# Altium schematic symbol library ubloxLib.SchLib: 19 symbols
Pins are listed as number, name and electrical type; pins without a type are passive.

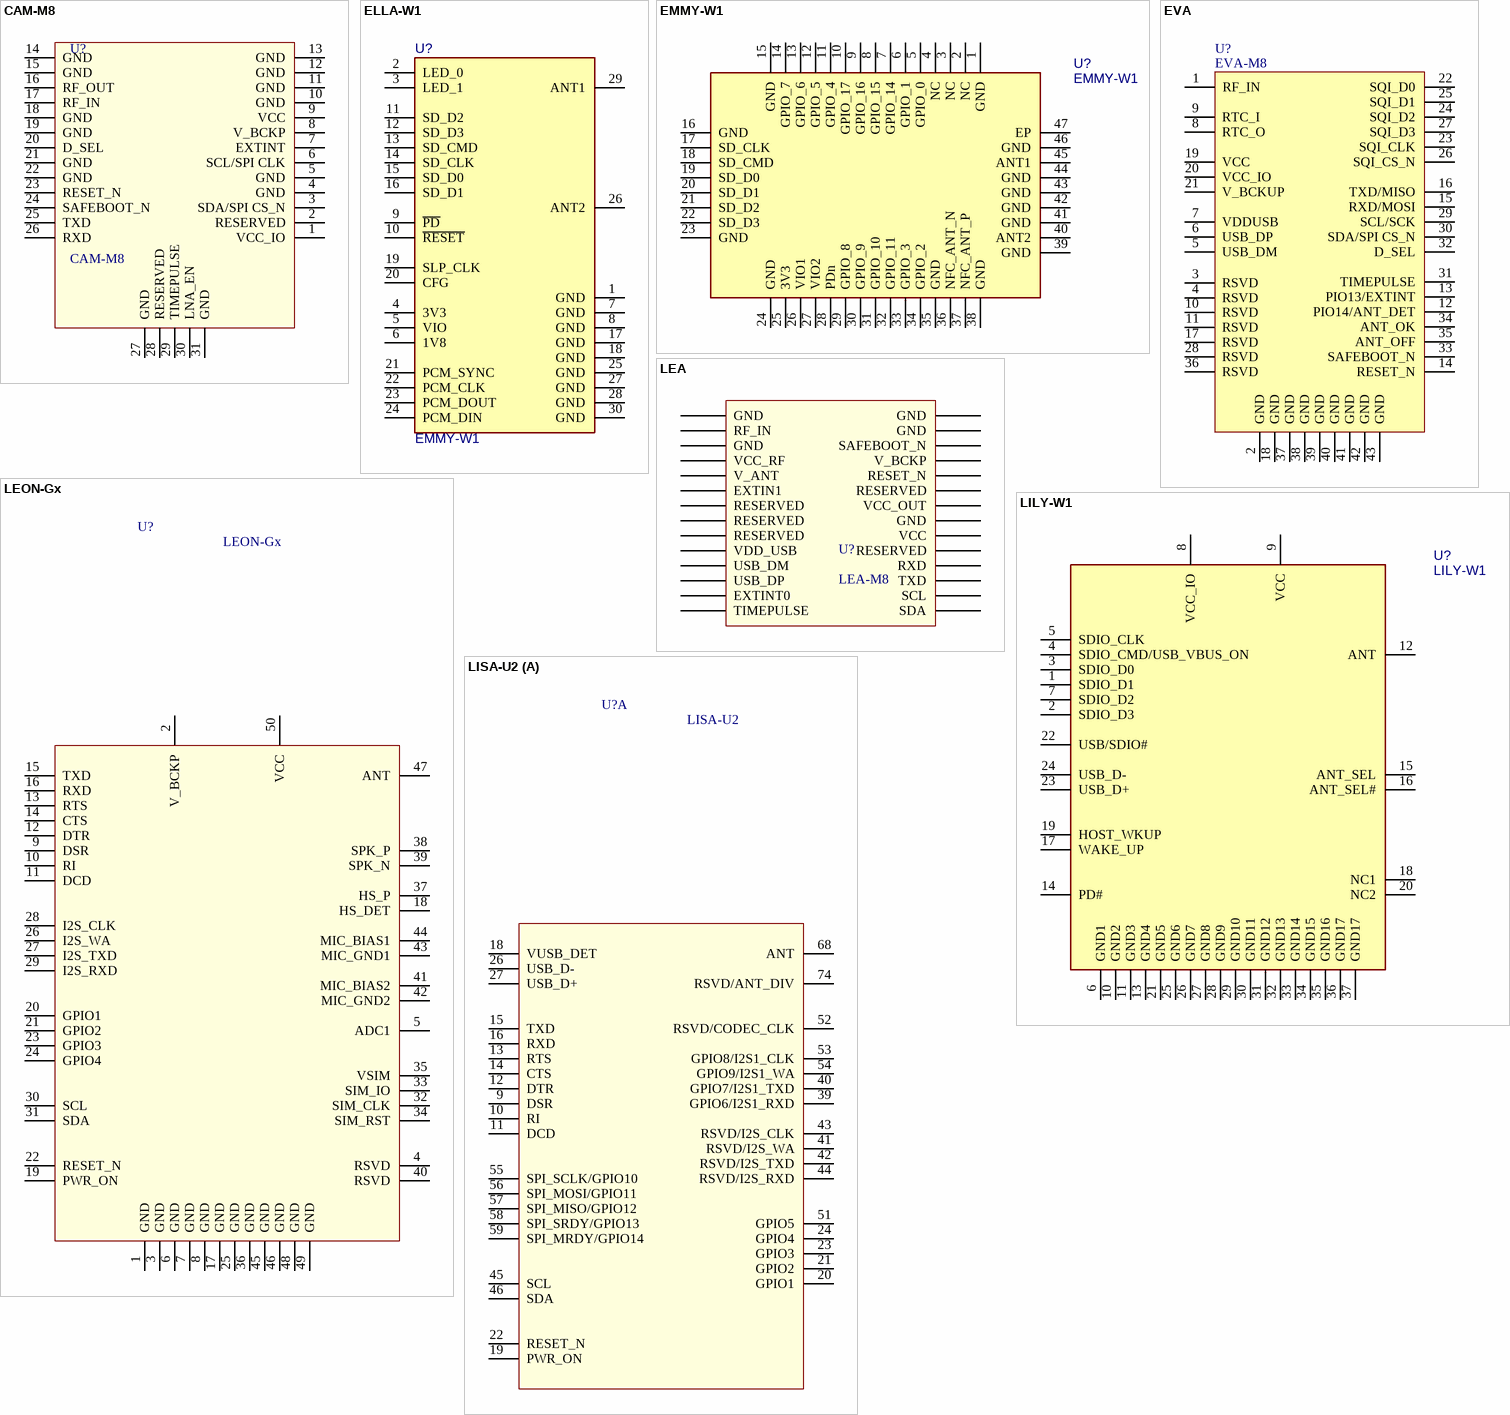
[diagram p0: symbols CAM-M8 to LISA-U2]

## CAM-M8
designator U?
u-blox CAM GNSS antenna module; Manufacturer: u-blox; Part Description: u-blox CAM GNSS antenna module; Value: CAM-M8
footprint CAM (u-blox CAM GNSS antenna module)
pins: 1 VCC_IO, 2 RESERVED, 3 SDA/SPI CS_N, 4 GND, 5 GND, 6 SCL/SPI CLK, 7 EXTINT, 8 V_BCKP, 9 VCC, 10 GND, 11 GND, 12 GND, 13 GND, 14 GND, 15 GND, 16 RF_OUT, 17 RF_IN, 18 GND, 19 GND, 20 D_SEL, 21 GND, 22 GND, 23 RESET_N, 24 SAFEBOOT_N, 25 TXD, 26 RXD, 27 GND, 28 RESERVED, 29 TIMEPULSE, 30 LNA_EN, 31 GND

## ELLA-W1
designator U?, comment EMMY-W1
IEEE 802.11a/b/g/n Wi-Fi, Bluetooth 3.0+HS Module; Manufacturer: u-blox; Part Description: IEEE 802.11a/b/g/n Wi-Fi, Bluetooth 3.0+HS Module; Value: EMMY-W1
footprint ELLA-W1 (IEEE 802.11a/b/g/n Wi-Fi, Bluetooth 3.0+HS Module)
pins: 1 GND (power), 2 LED_0, 3 LED_1, 4 3V3 (power), 5 VIO (power), 6 1V8 (power), 7 GND (power), 8 GND (power), 9 ~{PD}, 10 ~{RESET}, 11 SD_D2, 12 SD_D3, 13 SD_CMD, 14 SD_CLK, 15 SD_D0, 16 SD_D1, 17 GND (power), 18 GND (power), 19 SLP_CLK, 20 CFG, 21 PCM_SYNC, 22 PCM_CLK, 23 PCM_DOUT, 24 PCM_DIN, 25 GND (power), 26 ANT2, 27 GND (power), 28 GND (power), 29 ANT1, 30 GND (power)

## EMMY-W1
designator U?
Host-based multiradio module with Wi-Fi, Bluetooth and NFC; Manufacturer: u-blox; Part Description: Host-based multiradio module with Wi-Fi, Bluetooth and NFC; Value: EMMY-W1
footprint EMMY-W1 (Host-based multiradio module with Wi-Fi, Bluetooth and NFC)
pins: 1 GND, 2 NC, 3 NC, 4 NC, 5 GPIO_0, 6 GPIO_1, 7 GPIO_14, 8 GPIO_15, 9 GPIO_16, 10 GPIO_17, 11 GPIO_4, 12 GPIO_5, 13 GPIO_6, 14 GPIO_7, 15 GND, 16 GND, 17 SD_CLK, 18 SD_CMD, 19 SD_D0, 20 SD_D1, 21 SD_D2, 22 SD_D3, 23 GND, 24 GND, 25 3V3, 26 VIO1, 27 VIO2, 28 PDn, 29 GPIO_8, 30 GPIO_9, 31 GPIO_10, 32 GPIO_11, 33 GPIO_3, 34 GPIO_2, 35 GND, 36 NFC_ANT_N, 37 NFC_ANT_P, 38 GND, 39 GND, 40 ANT2, 41 GND, 42 GND, 43 GND, 44 GND, 45 ANT1, 46 GND, 47 EP

## EVA
designator U?, comment EVA-M8
u-blox EVA GNSS module; Part Description: u-blox EVA-M8 GNSS moduel; Manufacturer: u-blox; Value: EVA-M8
footprint EVA (u-blox EVA GNSS module)
pins: 1 RF_IN, 2 GND (power), 3 RSVD, 4 RSVD, 5 USB_DM, 6 USB_DP, 7 VDDUSB (power), 8 RTC_O, 9 RTC_I, 10 RSVD, 11 RSVD, 12 PIO14/ANT_DET, 13 PIO13/EXTINT, 14 RESET_N, 15 RXD/MOSI, 16 TXD/MISO, 17 RSVD, 18 GND (power), 19 VCC (power), 20 VCC_IO (power), 21 V_BCKUP (power), 22 SQI_D0, 23 SQI_CLK, 24 SQI_D2, 25 SQI_D1, 26 SQI_CS_N, 27 SQI_D3, 28 RSVD, 29 SCL/SCK, 30 SDA/SPI CS_N, 31 TIMEPULSE, 32 D_SEL, 33 SAFEBOOT_N, 34 ANT_OK, 35 ANT_OFF, 36 RSVD, 37 GND (power), 38 GND (power), 39 GND (power), 40 GND (power), 41 GND (power), 42 GND (power), 43 GND (power)

## LEA
designator U?, comment LEA-M8
u-blox LEA GNSS module; Part Description: u-blox LEA-M8 GNSS module; Manufacturer: u-blox; Value: LEA-M8
footprint LEA (u-blox LEA GNSS module)
pins: 1 SDA, 2 SCL, 3 TXD, 4 RXD, 5 RESERVED, 6 VCC, 7 GND, 8 VCC_OUT, 9 RESERVED, 10 RESET_N, 11 V_BCKP, 12 SAFEBOOT_N, 13 GND, 14 GND, 15 GND, 16 RF_IN, 17 GND, 18 VCC_RF, 19 V_ANT, 20 EXTIN1, 21 RESERVED, 22 RESERVED, 23 RESERVED, 24 VDD_USB, 25 USB_DM, 26 USB_DP, 27 EXTINT0, 28 TIMEPULSE

## LEON-Gx
designator U?
quad-band GSM/GPRS data & voice module; Manufacturer: u-blox; Part Description: quad-band GSM/GPRS data & voice module; Value: LEON-Gx
footprint LEON-Gx (quad-band GSM/GPRS data & voice module)
pins: 1 GND, 2 V_BCKP, 3 GND, 4 RSVD, 5 ADC1, 6 GND, 7 GND, 8 GND, 9 DSR, 10 RI, 11 DCD, 12 DTR, 13 RTS, 14 CTS, 15 TXD, 16 RXD, 17 GND, 18 HS_DET, 19 PWR_ON, 20 GPIO1, 21 GPIO2, 22 RESET_N, 23 GPIO3, 24 GPIO4, 25 GND, 26 I2S_WA, 27 I2S_TXD, 28 I2S_CLK, 29 I2S_RXD, 30 SCL, 31 SDA, 32 SIM_CLK, 33 SIM_IO, 34 SIM_RST, 35 VSIM, 36 GND, 37 HS_P, 38 SPK_P, 39 SPK_N, 40 RSVD, 41 MIC_BIAS2, 42 MIC_GND2, 43 MIC_GND1, 44 MIC_BIAS1, 45 GND, 46 GND, 47 ANT, 48 GND, 49 GND, 50 VCC

## LILY-W1
designator U?
Host-based Wi-Fi module; Manufacturer: u-blox; Part Description: Host-based Wi-Fi module; Value: LILY-W1
footprint LILY-W1 (Host-based Wi-Fi module)
pins: 1 SDIO_D1, 2 SDIO_D3, 3 SDIO_D0, 4 SDIO_CMD/USB_VBUS_ON, 5 SDIO_CLK, 6 GND1, 7 SDIO_D2, 8 VCC_IO, 9 VCC, 10 GND2, 11 GND3, 12 ANT, 13 GND4, 14 PD#, 15 ANT_SEL, 16 ANT_SEL#, 17 WAKE_UP, 18 NC1, 19 HOST_WKUP, 20 NC2, 21 GND5, 22 USB/SDIO#, 23 USB_D+, 24 USB_D-, 25 GND6, 26 GND7, 27 GND8, 28 GND9, 29 GND10, 30 GND11, 31 GND12, 32 GND13, 33 GND14, 34 GND15, 35 GND16, 36 GND17, 37 GND17

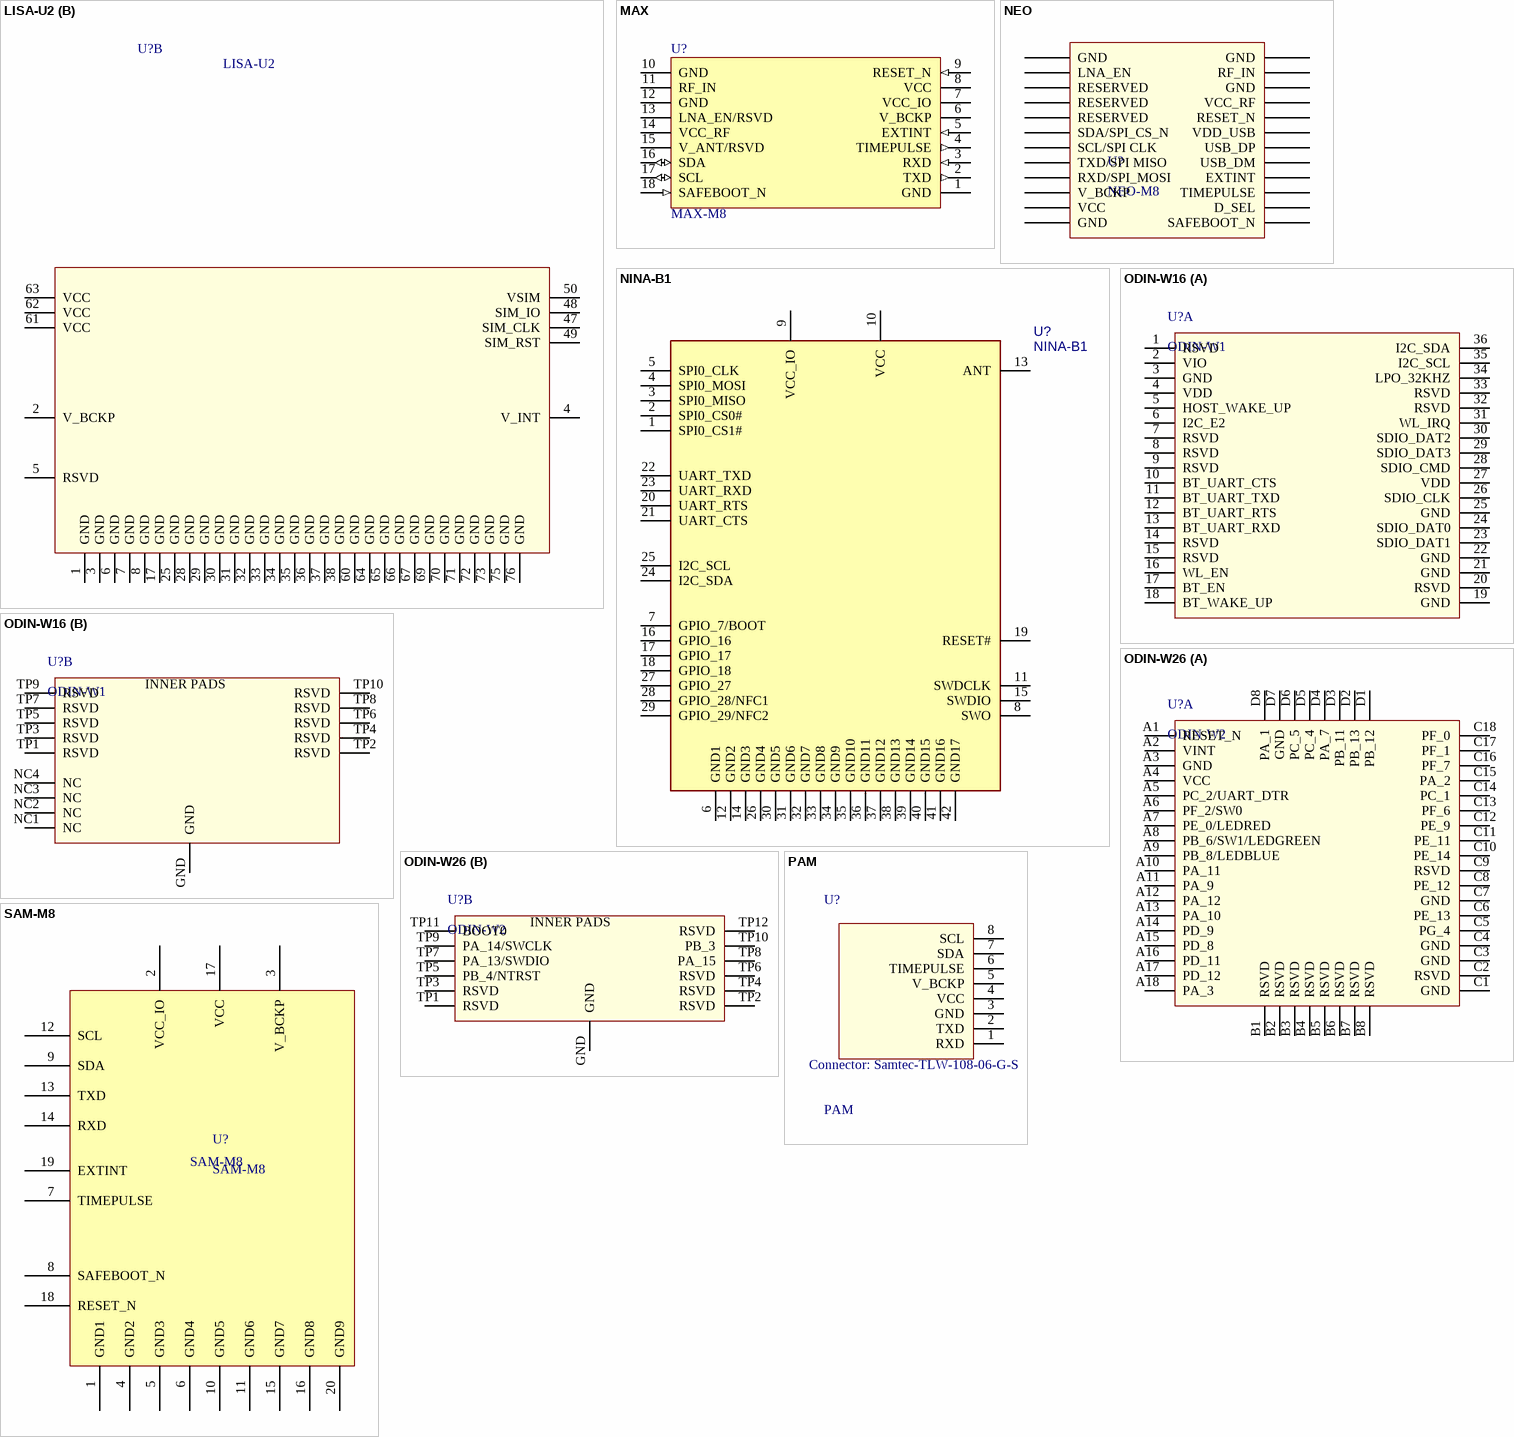
[diagram p1: symbols LISA-U2 to SAM-M8]

## LISA-U2
designator U?
3.75G HSPA+ Cellular Module; Manufacturer: u-blox; Part Description: 3.75G HSPA+ Cellular Module; Value: LISA-U2
footprint LISA-u2 (3.75G HSPA+ Cellular Module)
part A pins: 9 DSR, 10 RI, 11 DCD, 12 DTR, 13 RTS, 14 CTS, 15 TXD, 16 RXD, 18 VUSB_DET, 19 PWR_ON, 20 GPIO1, 21 GPIO2, 22 RESET_N, 23 GPIO3, 24 GPIO4, 26 USB_D-, 27 USB_D+, 39 GPIO6/I2S1_RXD, 40 GPIO7/I2S1_TXD, 41 RSVD/I2S_WA, 42 RSVD/I2S_TXD, 43 RSVD/I2S_CLK, 44 RSVD/I2S_RXD, 45 SCL, 46 SDA, 51 GPIO5, 52 RSVD/CODEC_CLK, 53 GPIO8/I2S1_CLK, 54 GPIO9/I2S1_WA, 55 SPI_SCLK/GPIO10, 56 SPI_MOSI/GPIO11, 57 SPI_MISO/GPIO12, 58 SPI_SRDY/GPIO13, 59 SPI_MRDY/GPIO14, 68 ANT, 74 RSVD/ANT_DIV
part B pins: 1 GND, 2 V_BCKP, 3 GND, 4 V_INT, 5 RSVD, 6 GND, 7 GND, 8 GND, 17 GND, 25 GND, 28 GND, 29 GND, 30 GND, 31 GND, 32 GND, 33 GND, 34 GND, 35 GND, 36 GND, 37 GND, 38 GND, 47 SIM_CLK, 48 SIM_IO, 49 SIM_RST, 50 VSIM, 60 GND, 61 VCC, 62 VCC, 63 VCC, 64 GND, 65 GND, 66 GND, 67 GND, 69 GND, 70 GND, 71 GND, 72 GND, 73 GND, 75 GND, 76 GND

## MAX
designator U?, comment MAX-M8
u-blox MAX GNSS module; Part Description: u-blox GNSS module; Manufacturer: u-blox; Value: MAX-M8
footprint MAX-M8 (u-blox M8 concurrent GNSS modules)
pins: 1 GND, 2 TXD (out), 3 RXD (in), 4 TIMEPULSE (out), 5 EXTINT (in), 6 V_BCKP, 7 VCC_IO, 8 VCC, 9 RESET_N (in), 10 GND, 11 RF_IN, 12 GND, 13 LNA_EN/RSVD, 14 VCC_RF, 15 V_ANT/RSVD, 16 SDA (io), 17 SCL (io), 18 SAFEBOOT_N (in)

## NEO
designator U?, comment NEO-M8
u-blox NEO GNSS module; Part Description: u-blox GNSS module; Manufacturer: u-blox; Value: NEO-M8
footprint NEO (u-blox NEO GNSS module)
pins: 1 SAFEBOOT_N, 2 D_SEL, 3 TIMEPULSE, 4 EXTINT, 5 USB_DM, 6 USB_DP, 7 VDD_USB, 8 RESET_N, 9 VCC_RF, 10 GND, 11 RF_IN, 12 GND, 13 GND, 14 LNA_EN, 15 RESERVED, 16 RESERVED, 17 RESERVED, 18 SDA/SPI_CS_N, 19 SCL/SPI CLK, 20 TXD/SPI MISO, 21 RXD/SPI_MOSI, 22 V_BCKP, 23 VCC, 24 GND

## NINA-B1
designator U?
Stand-alone Bluetooth low energy module; Manufacturer: u-blox; Part Description: Stand-alone Bluetooth low energy module; Value: NINA-B1
footprint NINA-B1 (Stand-alone Bluetooth low energy module)
pins: 1 SPI0_CS1#, 2 SPI0_CS0#, 3 SPI0_MISO, 4 SPI0_MOSI, 5 SPI0_CLK, 6 GND1, 7 GPIO_7/BOOT, 8 SWO, 9 VCC_IO, 10 VCC, 11 SWDCLK, 12 GND2, 13 ANT, 14 GND3, 15 SWDIO, 16 GPIO_16, 17 GPIO_17, 18 GPIO_18, 19 RESET#, 20 UART_RTS, 21 UART_CTS, 22 UART_TXD, 23 UART_RXD, 24 I2C_SDA, 25 I2C_SCL, 26 GND4, 27 GPIO_27, 28 GPIO_28/NFC1, 29 GPIO_29/NFC2, 30 GND5, 31 GND6, 32 GND7, 33 GND8, 34 GND9, 35 GND10, 36 GND11, 37 GND12, 38 GND13, 39 GND14, 40 GND15, 41 GND16, 42 GND17

## ODIN-W16
designator U?, comment ODIN-W1
Host-based multiradio module with Wi-Fi and Bluetooth; Manufacturer: u-blox; Part Description: Host-based multiradio module with Wi-Fi and Bluetooth; Value: ODIN-W1
footprint ODIN-W16 (ODIN-W16 WiFi/BT module)
part A pins: 1 RSVD, 2 VIO, 3 GND, 4 VDD, 5 HOST_WAKE_UP, 6 I2C_E2, 7 RSVD, 8 RSVD, 9 RSVD, 10 BT_UART_CTS, 11 BT_UART_TXD, 12 BT_UART_RTS, 13 BT_UART_RXD, 14 RSVD, 15 RSVD, 16 WL_EN, 17 BT_EN, 18 BT_WAKE_UP, 19 GND, 20 RSVD, 21 GND, 22 GND, 23 SDIO_DAT1, 24 SDIO_DAT0, 25 GND, 26 SDIO_CLK, 27 VDD, 28 SDIO_CMD, 29 SDIO_DAT3, 30 SDIO_DAT2, 31 WL_IRQ, 32 RSVD, 33 RSVD, 34 LPO_32KHZ, 35 I2C_SCL, 36 I2C_SDA
part B pins: GND, NC1 NC, NC2 NC, NC3 NC, NC4 NC, TP1 RSVD, TP2 RSVD, TP3 RSVD, TP4 RSVD, TP5 RSVD, TP6 RSVD, TP7 RSVD, TP8 RSVD, TP9 RSVD, TP10 RSVD
part B text: INNER PADS

## ODIN-W26
designator U?, comment ODIN-W2
Stand-alone multiradio module with Wi-Fi & Bluetooth; Manufacturer: u-blox; Part Description: Stand-alone multiradio module with Wi-Fi & Bluetooth; Value: ODIN-W2
footprint ODIN-W26 (ODIN-W262 WiFi/BT  module)
part A pins: A1 RESET_N, A2 VINT, A3 GND, A4 VCC, A5 PC_2/UART_DTR, A6 PF_2/SW0, A7 PE_0/LEDRED, A8 PB_6/SW1/LEDGREEN, A9 PB_8/LEDBLUE, A10 PA_11, A11 PA_9, A12 PA_12, A13 PA_10, A14 PD_9, A15 PD_8, A16 PD_11, A17 PD_12, A18 PA_3, B1 RSVD, B2 RSVD, B3 RSVD, B4 RSVD, B5 RSVD, B6 RSVD, B7 RSVD, B8 RSVD, C1 GND, C2 RSVD, C3 GND, C4 GND, C5 PG_4, C6 PE_13, C7 GND, C8 PE_12, C9 RSVD, C10 PE_14, C11 PE_11, C12 PE_9, C13 PF_6, C14 PC_1, C15 PA_2, C16 PF_7, C17 PF_1, C18 PF_0, D1 PB_12, D2 PB_13, D3 PB_11, D4 PA_7, D5 PC_4, D6 PC_5, D7 GND, D8 PA_1
part B pins: GND, TP1 RSVD, TP2 RSVD, TP3 RSVD, TP4 RSVD, TP5 PB_4/NTRST, TP6 RSVD, TP7 PA_13/SWDIO, TP8 PA_15, TP9 PA_14/SWCLK, TP10 PB_3, TP11 BOOT0, TP12 RSVD
part B text: INNER PADS

## PAM
designator U?  Connector: Samtec-TLW-108-06-G-S
u-blox PAM GNSS antenna module; Manufacturer: u-blox; Part Description: u-blox PAM GNSS antenna module; Value: PAM
footprint PAM (u-blox PAM antenna module)
pins: 1 RXD, 2 TXD, 3 GND, 4 VCC, 5 V_BCKP, 6 TIMEPULSE, 7 SDA, 8 SCL

## SAM-M8
designator U?
ublox SAM GNSS antenna module; Manufacturer: u-blox; Part Description: u-blox SAM GNSS antenna module; Value: SAM-M8
footprint SAM-M8 (ublox SAM antenna module)
pins: 1 GND1, 2 VCC_IO, 3 V_BCKP, 4 GND2, 5 GND3, 6 GND4, 7 TIMEPULSE, 8 SAFEBOOT_N, 9 SDA, 10 GND5, 11 GND6, 12 SCL, 13 TXD, 14 RXD, 15 GND7, 16 GND8, 17 VCC, 18 RESET_N, 19 EXTINT, 20 GND9

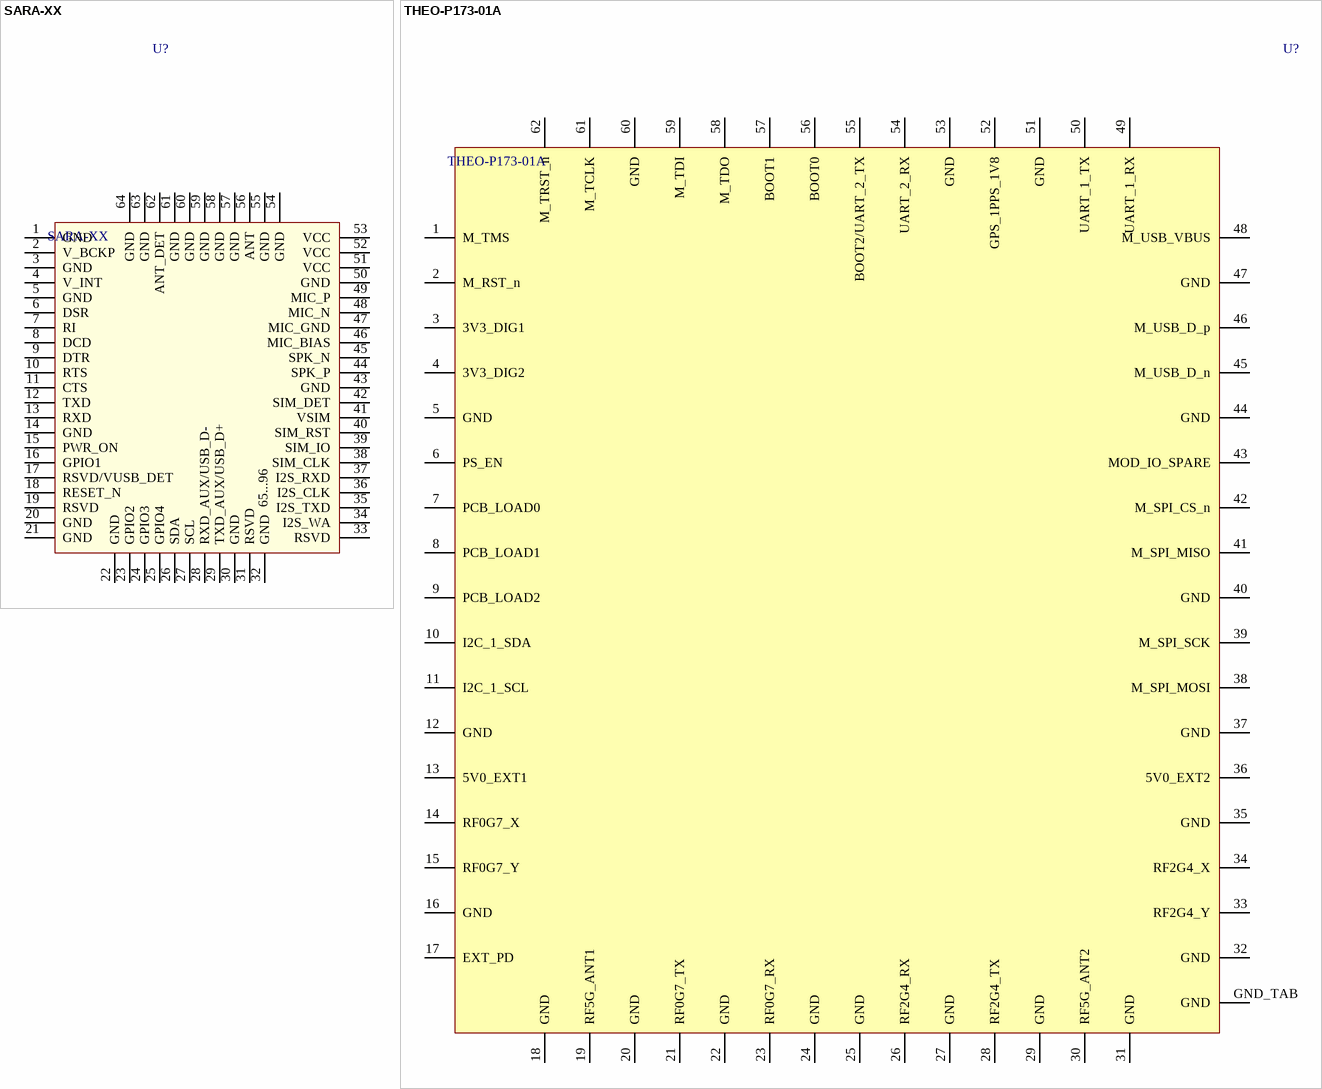
[diagram p2: symbols SARA-XX to THEO-P173-01A]

## SARA-XX
designator U?
GSM/GPRS and GSM/EGPRS/HSPA Cellular Module; Manufacturer: u-blox; Part Description: GSM/EGPRS/HSPA module; Value: SARA-XX
footprint SARA-XX (GSM/GPRS and GSM/EGPRS/HSPA   Cellular Module)
pins: 1 GND, 2 V_BCKP, 3 GND, 4 V_INT, 5 GND, 6 DSR, 7 RI, 8 DCD, 9 DTR, 10 RTS, 11 CTS, 12 TXD, 13 RXD, 14 GND, 15 PWR_ON, 16 GPIO1, 17 RSVD/VUSB_DET, 18 RESET_N, 19 RSVD, 20 GND, 21 GND, 22 GND, 23 GPIO2, 24 GPIO3, 25 GPIO4, 26 SDA, 27 SCL, 28 RXD_AUX/USB_D-, 29 TXD_AUX/USB_D+, 30 GND, 31 RSVD, 32 GND, 33 RSVD, 34 I2S_WA, 35 I2S_TXD, 36 I2S_CLK, 37 I2S_RXD, 38 SIM_CLK, 39 SIM_IO, 40 SIM_RST, 41 VSIM, 42 SIM_DET, 43 GND, 44 SPK_P, 45 SPK_N, 46 MIC_BIAS, 47 MIC_GND, 48 MIC_N, 49 MIC_P, 50 GND, 51 VCC, 52 VCC, 53 VCC, 54 GND, 55 GND, 56 ANT, 57 GND, 58 GND, 59 GND, 60 GND, 61 GND, 62 ANT_DET, 63 GND, 64 GND, 65 GND, 66 GND, 67 GND, 68 GND, 69 GND, 70 GND, 71 GND, 72 GND, 73 GND, 74 GND, 75 GND, 76 GND, 77 GND, 78 GND, 79 GND, 80 GND, 81 GND, 82 GND, 83 GND, 84 GND, 85 GND, 86 GND, 87 GND, 88 GND, 89 GND, 90 GND, 91 GND, 92 GND, 93 GND, 94 GND, 95 GND, 96 GND
text: 65...96

## THEO-P173-01A
designator U?
Host-based V2X transceiver module; Manufacturer: u-blox; Part Description: Host-based V2X transceiver module; Value: THEO-P173-01A
footprint THEO-P173-01A (Host-based V2X transceiver module)
pins: 1 M_TMS, 2 M_RST_n, 3 3V3_DIG1 (power), 4 3V3_DIG2 (power), 5 GND (power), 6 PS_EN, 7 PCB_LOAD0, 8 PCB_LOAD1, 9 PCB_LOAD2, 10 I2C_1_SDA, 11 I2C_1_SCL, 12 GND (power), 13 5V0_EXT1 (power), 14 RF0G7_X, 15 RF0G7_Y, 16 GND (power), 17 EXT_PD (power), 18 GND (power), 19 RF5G_ANT1, 20 GND (power), 21 RF0G7_TX, 22 GND (power), 23 RF0G7_RX, 24 GND (power), 25 GND (power), 26 RF2G4_RX, 27 GND (power), 28 RF2G4_TX, 29 GND (power), 30 RF5G_ANT2, 31 GND (power), 32 GND (power), 33 RF2G4_Y, 34 RF2G4_X, 35 GND (power), 36 5V0_EXT2 (power), 37 GND (power), 38 M_SPI_MOSI, 39 M_SPI_SCK, 40 GND (power), 41 M_SPI_MISO, 42 M_SPI_CS_n, 43 MOD_IO_SPARE, 44 GND (power), 45 M_USB_D_n, 46 M_USB_D_p, 47 GND (power), 48 M_USB_VBUS, 49 UART_1_RX, 50 UART_1_TX, 51 GND (power), 52 GPS_1PPS_1V8, 53 GND (power), 54 UART_2_RX, 55 BOOT2/UART_2_TX, 56 BOOT0, 57 BOOT1, 58 M_TDO, 59 M_TDI, 60 GND (power), 61 M_TCLK, 62 M_TRST_n, GND_TAB (power), GND_TAB GND (power)

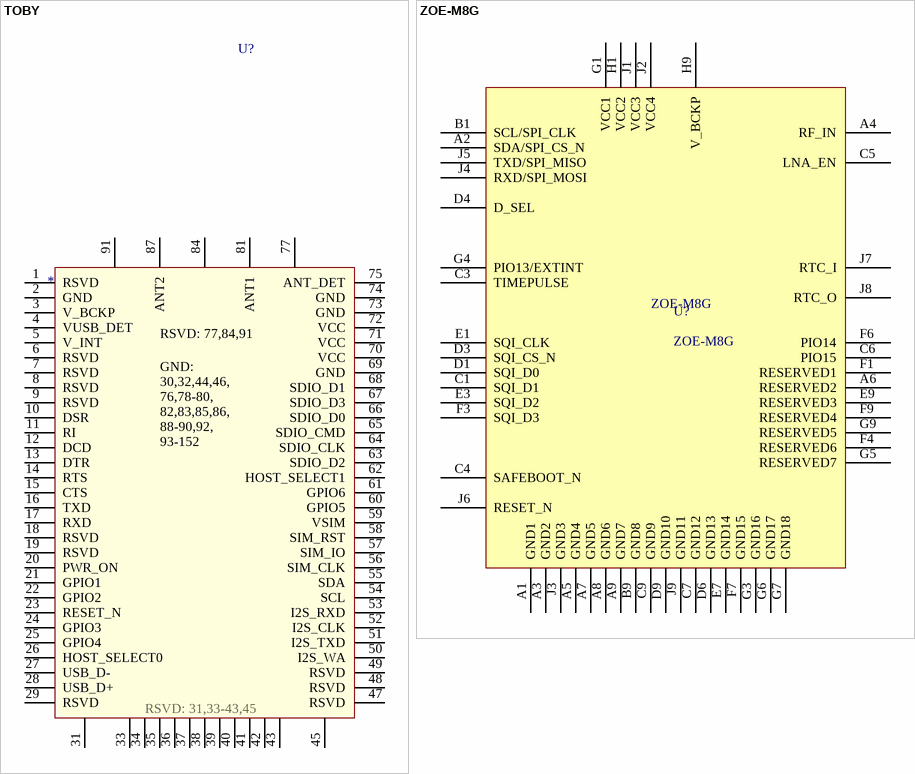
[diagram p3: symbols TOBY to ZOE-M8G]

## TOBY
designator U?
TOBY cellular modems; Manufacturer: u-blox; Part Manufacturer: *; Value: *
footprint TOBY (TOBY cellular module)
pins: 1 RSVD, 2 GND, 3 V_BCKP, 4 VUSB_DET, 5 V_INT, 6 RSVD, 7 RSVD, 8 RSVD, 9 RSVD, 10 DSR, 11 RI, 12 DCD, 13 DTR, 14 RTS, 15 CTS, 16 TXD, 17 RXD, 18 RSVD, 19 RSVD, 20 PWR_ON, 21 GPIO1, 22 GPIO2, 23 RESET_N, 24 GPIO3, 25 GPIO4, 26 HOST_SELECT0, 27 USB_D-, 28 USB_D+, 29 RSVD, 30 GND, 31 RSVD, 32 GND, 33 RSVD, 34 RSVD, 35 RSVD, 36 RSVD, 37 RSVD, 38 RSVD, 39 RSVD, 40 RSVD, 41 RSVD, 42 RSVD, 43 RSVD, 44, 45 RSVD, 46, 47 RSVD, 48 RSVD, 49 RSVD, 50 I2S_WA, 51 I2S_TXD, 52 I2S_CLK, 53 I2S_RXD, 54 SCL, 55 SDA, 56 SIM_CLK, 57 SIM_IO, 58 SIM_RST, 59 VSIM, 60 GPIO5, 61 GPIO6, 62 HOST_SELECT1, 63 SDIO_D2, 64 SDIO_CLK, 65 SDIO_CMD, 66 SDIO_D0, 67 SDIO_D3, 68 SDIO_D1, 69 GND, 70 VCC, 71 VCC, 72 VCC, 73 GND, 74 GND, 75 ANT_DET, 76 155, 77 RSVD, 78 156, 79 GND, 80 GND, 81 ANT1, 82 44, 83 46, 84 RSVD, 85 155, 86 156, 87 ANT2, 88 157, 89 157, 90 157, 91 RSVD, 92 GND, 93 GND, 94 GND, 95 GND, 96 GND, 97 GND, 98 GND, 99 GND, 100 GND, 101 GND, 102 GND, 103 GND, 104 GND, 105 GND, 106 GND, 107 GND, 108 GND, 109 GND, 110 GND, 111 GND, 112 GND, 113 GND, 114 GND, 115 GND, 116 GND, 117 GND, 118 GND, 119 GND, 120 GND, 121 GND, 122 GND, 123 GND, 124 GND, 125 GND, 126 GND, 127 GND, 128 GND, 129 GND, 130 GND, 131 GND, 132 GND, 133 GND, 134 GND, 135 GND, 136 GND, 137 GND, 138 GND, 139 GND, 140 GND, 141 GND, 142 GND, 143 GND, 144 GND, 145 GND, 146 GND, 147 GND, 148 GND, 149 GND, 150 GND, 151 GND, 152 GND
text: RSVD: 77,84,91; GND: / 30,32,44,46, / 76,78-80, / 82,83,85,86, / 88-90,92, / 93-152; RSVD: 31,33-43,45

## ZOE-M8G
designator U?
ublox ZOE GNSS module; Manufacturer: u-blox; Part Description: u-blox ZOE-M8G GNSS module; Value: ZOE-M8G
footprint ZOE-M8G
pins: A1 GND1, A2 SDA/SPI_CS_N, A3 GND2, A4 RF_IN, A5 GND4, A6 RESERVED2, A7 GND5, A8 GND6, A9 GND7, B1 SCL/SPI_CLK, B9 GND8, C1 SQI_D1, C3 TIMEPULSE, C4 SAFEBOOT_N, C5 LNA_EN, C6 PIO15, C7 GND12, C9 GND9, D1 SQI_D0, D3 SQI_CS_N, D4 D_SEL, D6 GND13, D9 GND10, E1 SQI_CLK, E3 SQI_D2, E7 GND14, E9 RESERVED3, F1 RESERVED1, F3 SQI_D3, F4 RESERVED6, F6 PIO14, F7 GND15, F9 RESERVED4, G1 VCC1, G3 GND16, G4 PIO13/EXTINT, G5 RESERVED7, G6 GND17, G7 GND18, G9 RESERVED5, H1 VCC2, H9 V_BCKP, J1 VCC3, J2 VCC4, J3 GND3, J4 RXD/SPI_MOSI, J5 TXD/SPI_MISO, J6 RESET_N, J7 RTC_I, J8 RTC_O, J9 GND11